# Altium footprint library PCB - DIODES - SOT143B.PCBLIB: 1 footprints
Each footprint in its own frame and in the unit in brackets; x right, y up, seen from the top. Pads: shape width x height; smd on the part's side, far side on the other; paste and mask are expansions set on the pad; w line width, h text height; cw(c..) or ccw(c..) is an arc to the next point about the centre after c.
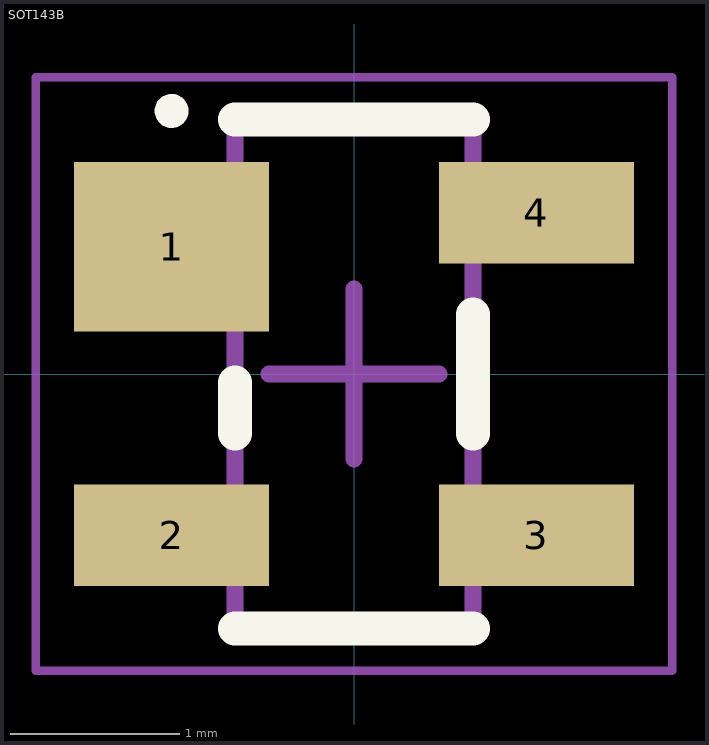
[diagram p0: the footprint, top view; thin cyan lines are the x and y axes]

## SOT143B [mm] "SOT143, 4-Leads, Body 2.90x2.30mm, Pitch 1.90mm, IPC Medium Density"
height 1.1
pads (4):
  rect 1.15x1 smd: 1(-1.075,0.75)
  rect 1.15x0.6 smd: 2(-1.075,-0.95) 3(1.075,-0.95) 4(1.075,0.95)
Top Overlay:
  circle w0.1: c-1.075,1.55 r0.05
  lines w0.2: -0.7,-1.5 0.7,-1.5 ; -0.7,-0.35 -0.7,-0.05 ; -0.7,1.5 0.7,1.5 ; 0.7,-0.35 0.7,0.35
Mechanical 13:
  lines w0.1: -0.7,-1.5 0.7,-1.5 0.7,1.5 -0.7,1.5 -0.7,-1.5
Mechanical 15:
  lines w0.05: -1.875,-1.75 1.875,-1.75 1.875,1.75 -1.875,1.75 -1.875,-1.75
2:
  lines w0.1: -0.5,0 0.5,0 ; 0,-0.5 0,0.5
3D body "SOT143B.STEP": height 1, standoff 0, extent -1.1,-1.45 1.1,1.45